# Altium footprint library Button-6_4.5.PcbLib: 1 footprints
Each footprint in its own frame and in the unit in brackets; x right, y up, seen from the top. Pads: shape width x height; smd on the part's side, far side on the other; paste and mask are expansions set on the pad; w line width, h text height; cw(c..) or ccw(c..) is an arc to the next point about the centre after c.
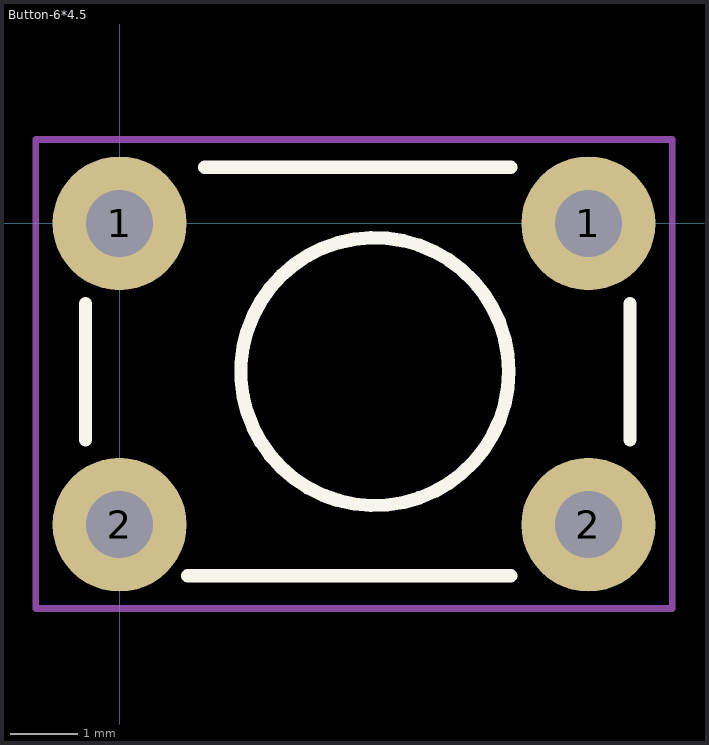
[diagram p0: the footprint, top view; thin cyan lines are the x and y axes]

## Button-6*4.5 [mm]
pads (4):
  round 2 hole 1: 1(0,0) 1(7,0) 2(0,-4.5) 2(7,-4.5)
Top Overlay:
  circle w0.2: c3.81,-2.214 r2
  lines w0.2: -0.508,-3.23 -0.508,-1.198 ; 1.016,-5.262 5.842,-5.262 ; 1.27,0.834 5.842,0.834 ; 7.62,-3.23 7.62,-1.198
Mechanical 15:
  lines w0.1: -1.25,-5.75 -1.25,1.25 8.25,1.25 8.25,-5.75 -1.25,-5.75
3D body "User Library-Pushbutton-3.step": height 8.4, standoff -2.5, extent -0.55,-5.214 7.662,0.786